# Altium integrated library WE-PD (rev22a).IntLib: 359 symbols (part 5 of 6)
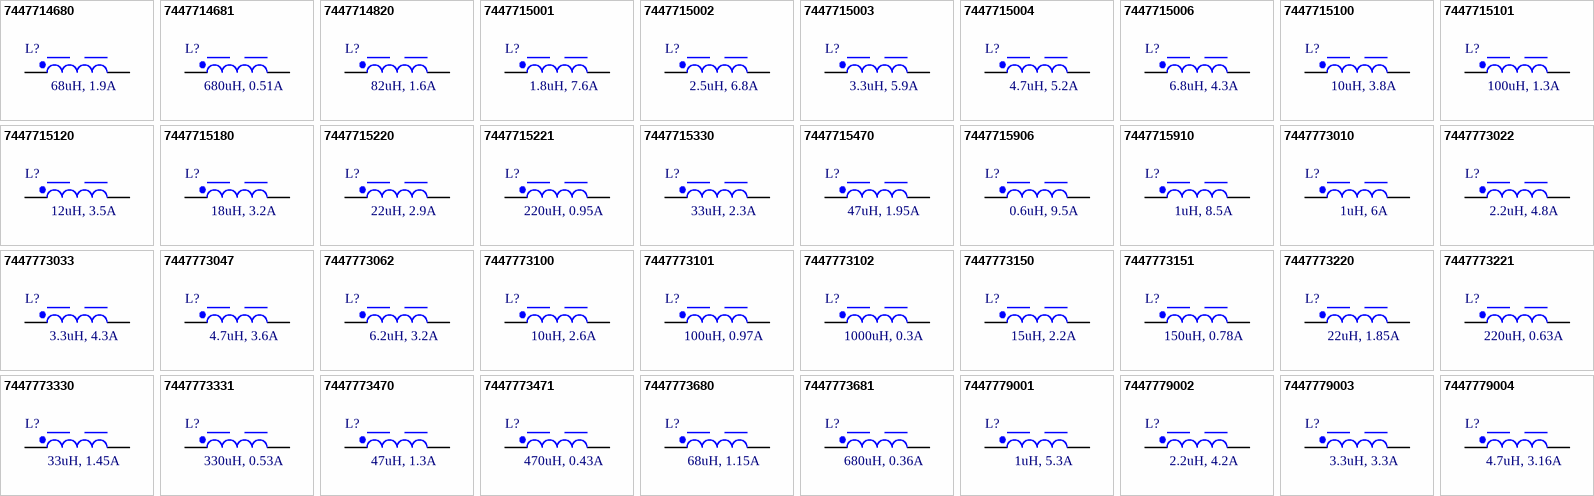
[diagram p12: symbols 7447714680 to 7447779004]

## 7447773470
designator L?, comment 47uH, 1.3A
WE-PD SMT Power Inductor, size 7345P, 47uH, 1.3A, 182mOhm; Manufacturer: Wurth Elektronik; Manufacturer Part Number: 7447773470; Self Resonant Frequency: 10.3MHz; DC Resistance typ.: 150mOhm; Saturation Current: 1.7A; Type: Performance; ComponentLink1Description: Manufacturer; ComponentLink1URL: http://www.we-online.de; ComponentLink2Description: Datasheet; ComponentLink2URL: https://www.we-online.com/catalog/datasheet/7447773470.pdf; Mounting Technology: SMT; Operating Temperature: -40 to +150degC; Packaging: Tape and Reel; DC Resistance max.: 182mOhm; Inductance: 47uH; Rated Current: 1.3A; Size: 7345P; Height: 4.5mm; Length: 7.3mm; Width: 7.4mm
footprint WE-PD_7345P
pins: 1, 2

## 7447773471
designator L?, comment 470uH, 0.43A
WE-PD SMT Power Inductor, size 7345P, 470uH, 0.43A, 1700mOhm; Manufacturer: Wurth Elektronik; Manufacturer Part Number: 7447773471; Self Resonant Frequency: 2.8MHz; DC Resistance typ.: 1360mOhm; Saturation Current: 0.55A; Type: Performance; ComponentLink1Description: Manufacturer; ComponentLink1URL: http://www.we-online.de; ComponentLink2Description: Datasheet; ComponentLink2URL: https://www.we-online.com/catalog/datasheet/7447773471.pdf; Mounting Technology: SMT; Operating Temperature: -40 to +150degC; Packaging: Tape and Reel; DC Resistance max.: 1700mOhm; Inductance: 470uH; Rated Current: 0.43A; Size: 7345P; Height: 4.5mm; Length: 7.3mm; Width: 7.4mm
footprint WE-PD_7345P
pins: 1, 2

## 7447773680
designator L?, comment 68uH, 1.15A
WE-PD SMT Power Inductor, size 7345P, 68uH, 1.15A, 230mOhm; Manufacturer: Wurth Elektronik; Manufacturer Part Number: 7447773680; Self Resonant Frequency: 8.4MHz; DC Resistance typ.: 190mOhm; Saturation Current: 1.45A; Type: Performance; ComponentLink1Description: Manufacturer; ComponentLink1URL: http://www.we-online.de; ComponentLink2Description: Datasheet; ComponentLink2URL: https://www.we-online.com/catalog/datasheet/7447773680.pdf; Mounting Technology: SMT; Operating Temperature: -40 to +150degC; Packaging: Tape and Reel; DC Resistance max.: 230mOhm; Inductance: 68uH; Rated Current: 1.15A; Size: 7345P; Height: 4.5mm; Length: 7.3mm; Width: 7.4mm
footprint WE-PD_7345P
pins: 1, 2

## 7447773681
designator L?, comment 680uH, 0.36A
WE-PD SMT Power Inductor, size 7345P, 680uH, 0.36A, 2300mOhm; Manufacturer: Wurth Elektronik; Manufacturer Part Number: 7447773681; Self Resonant Frequency: 2.3MHz; DC Resistance typ.: 1950mOhm; Saturation Current: 0.46A; Type: Performance; ComponentLink1Description: Manufacturer; ComponentLink1URL: http://www.we-online.de; ComponentLink2Description: Datasheet; ComponentLink2URL: https://www.we-online.com/catalog/datasheet/7447773681.pdf; Mounting Technology: SMT; Operating Temperature: -40 to +150degC; Packaging: Tape and Reel; DC Resistance max.: 2300mOhm; Inductance: 680uH; Rated Current: 0.36A; Size: 7345P; Height: 4.5mm; Length: 7.3mm; Width: 7.4mm
footprint WE-PD_7345P
pins: 1, 2

## 7447779001
designator L?, comment 1uH, 5.3A
WE-PD SMT Power Inductor, size 7345R, 1uH, 5.3A, 15mOhm; Manufacturer: Wurth Elektronik; Manufacturer Part Number: 7447779001; Self Resonant Frequency: 100MHz; DC Resistance typ.: 10mOhm; Saturation Current: 9.5A; Type: Robust; ComponentLink1Description: Manufacturer; ComponentLink1URL: http://www.we-online.de; ComponentLink2Description: Datasheet; ComponentLink2URL: https://www.we-online.com/catalog/datasheet/7447779001.pdf; Mounting Technology: SMT; Operating Temperature: -40 to +125degC; Packaging: Tape and Reel; DC Resistance max.: 15mOhm; Inductance: 1uH; Rated Current: 5.3A; Size: 7345R; Height: 4.5mm; Length: 7.3mm; Width: 7.3mm
footprint WE-PD_7345R
pins: 1, 2

## 7447779002
designator L?, comment 2.2uH, 4.2A
WE-PD SMT Power Inductor, size 7345R, 2.2uH, 4.2A, 20mOhm; Manufacturer: Wurth Elektronik; Manufacturer Part Number: 7447779002; Self Resonant Frequency: 60MHz; DC Resistance typ.: 16mOhm; Saturation Current: 6A; Type: Robust; ComponentLink1Description: Manufacturer; ComponentLink1URL: http://www.we-online.de; ComponentLink2Description: Datasheet; ComponentLink2URL: https://www.we-online.com/catalog/datasheet/7447779002.pdf; Mounting Technology: SMT; Operating Temperature: -40 to +125degC; Packaging: Tape and Reel; DC Resistance max.: 20mOhm; Inductance: 2.2uH; Rated Current: 4.2A; Size: 7345R; Height: 4.5mm; Length: 7.3mm; Width: 7.3mm
footprint WE-PD_7345R
pins: 1, 2

## 7447779003
designator L?, comment 3.3uH, 3.3A
WE-PD SMT Power Inductor, size 7345R, 3.3uH, 3.3A, 30mOhm; Manufacturer: Wurth Elektronik; Manufacturer Part Number: 7447779003; Self Resonant Frequency: 55MHz; DC Resistance typ.: 26mOhm; Saturation Current: 4.5A; Type: Robust; ComponentLink1Description: Manufacturer; ComponentLink1URL: http://www.we-online.de; ComponentLink2Description: Datasheet; ComponentLink2URL: https://www.we-online.com/catalog/datasheet/7447779003.pdf; Mounting Technology: SMT; Operating Temperature: -40 to +125degC; Packaging: Tape and Reel; DC Resistance max.: 30mOhm; Inductance: 3.3uH; Rated Current: 3.3A; Size: 7345R; Height: 4.5mm; Length: 7.3mm; Width: 7.3mm
footprint WE-PD_7345R
pins: 1, 2

## 7447779004
designator L?, comment 4.7uH, 3.16A
WE-PD SMT Power Inductor, size 7345R, 4.7uH, 3.16A, 32mOhm; Manufacturer: Wurth Elektronik; Manufacturer Part Number: 7447779004; Self Resonant Frequency: 37MHz; DC Resistance typ.: 28mOhm; Saturation Current: 4.4A; Type: Robust; ComponentLink1Description: Manufacturer; ComponentLink1URL: http://www.we-online.de; ComponentLink2Description: Datasheet; ComponentLink2URL: https://www.we-online.com/catalog/datasheet/7447779004.pdf; Mounting Technology: SMT; Operating Temperature: -40 to +125degC; Packaging: Tape and Reel; DC Resistance max.: 32mOhm; Inductance: 4.7uH; Rated Current: 3.16A; Size: 7345R; Height: 4.5mm; Length: 7.3mm; Width: 7.3mm
footprint WE-PD_7345R
pins: 1, 2

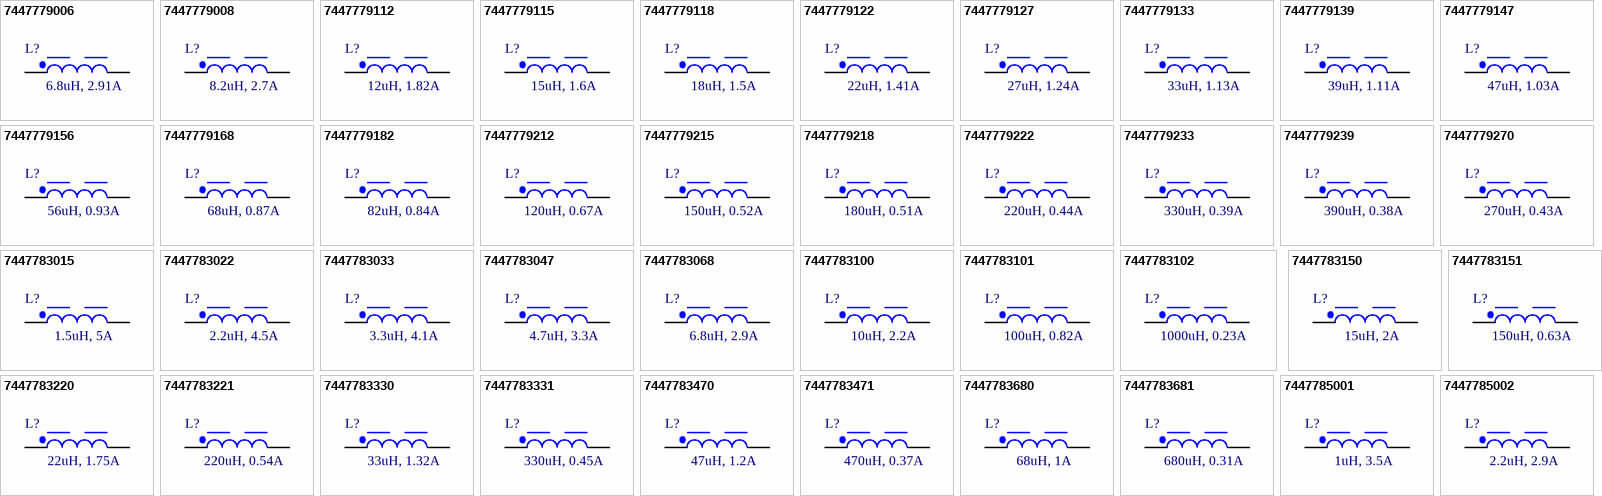
[diagram p7: symbols 7447779006 to 7447785002]

## 7447779006
designator L?, comment 6.8uH, 2.91A
WE-PD SMT Power Inductor, size 7345R, 6.8uH, 2.91A, 35mOhm; Manufacturer: Wurth Elektronik; Manufacturer Part Number: 7447779006; Self Resonant Frequency: 32MHz; DC Resistance typ.: 33mOhm; Saturation Current: 3.3A; Type: Robust; ComponentLink1Description: Manufacturer; ComponentLink1URL: http://www.we-online.de; ComponentLink2Description: Datasheet; ComponentLink2URL: https://www.we-online.com/catalog/datasheet/7447779006.pdf; Mounting Technology: SMT; Operating Temperature: -40 to +125degC; Packaging: Tape and Reel; DC Resistance max.: 35mOhm; Inductance: 6.8uH; Rated Current: 2.91A; Size: 7345R; Height: 4.5mm; Length: 7.3mm; Width: 7.3mm
footprint WE-PD_7345R
pins: 1, 2

## 7447779008
designator L?, comment 8.2uH, 2.7A
WE-PD SMT Power Inductor, size 7345R, 8.2uH, 2.7A, 53mOhm; Manufacturer: Wurth Elektronik; Manufacturer Part Number: 7447779008; Self Resonant Frequency: 28MHz; DC Resistance typ.: 47mOhm; Saturation Current: 3A; Type: Robust; ComponentLink1Description: Manufacturer; ComponentLink1URL: http://www.we-online.de; ComponentLink2Description: Datasheet; ComponentLink2URL: https://www.we-online.com/catalog/datasheet/7447779008.pdf; Mounting Technology: SMT; Operating Temperature: -40 to +125degC; Packaging: Tape and Reel; DC Resistance max.: 53mOhm; Inductance: 8.2uH; Rated Current: 2.7A; Size: 7345R; Height: 4.5mm; Length: 7.3mm; Width: 7.3mm
footprint WE-PD_7345R
pins: 1, 2

## 7447779112
designator L?, comment 12uH, 1.82A
WE-PD SMT Power Inductor, size 7345R, 12uH, 1.82A, 58mOhm; Manufacturer: Wurth Elektronik; Manufacturer Part Number: 7447779112; Self Resonant Frequency: 23MHz; DC Resistance typ.: 50mOhm; Saturation Current: 2.4A; Type: Robust; ComponentLink1Description: Manufacturer; ComponentLink1URL: http://www.we-online.de; ComponentLink2Description: Datasheet; ComponentLink2URL: https://www.we-online.com/catalog/datasheet/7447779112.pdf; Mounting Technology: SMT; Operating Temperature: -40 to +125degC; Packaging: Tape and Reel; DC Resistance max.: 58mOhm; Inductance: 12uH; Rated Current: 1.82A; Size: 7345R; Height: 4.5mm; Length: 7.3mm; Width: 7.3mm
footprint WE-PD_7345R
pins: 1, 2

## 7447779115
designator L?, comment 15uH, 1.6A
WE-PD SMT Power Inductor, size 7345R, 15uH, 1.6A, 81mOhm; Manufacturer: Wurth Elektronik; Manufacturer Part Number: 7447779115; Self Resonant Frequency: 19.5MHz; DC Resistance typ.: 70mOhm; Saturation Current: 2.2A; Type: Robust; ComponentLink1Description: Manufacturer; ComponentLink1URL: http://www.we-online.de; ComponentLink2Description: Datasheet; ComponentLink2URL: https://www.we-online.com/catalog/datasheet/7447779115.pdf; Mounting Technology: SMT; Operating Temperature: -40 to +125degC; Packaging: Tape and Reel; DC Resistance max.: 81mOhm; Inductance: 15uH; Rated Current: 1.6A; Size: 7345R; Height: 4.5mm; Length: 7.3mm; Width: 7.3mm
footprint WE-PD_7345R
pins: 1, 2

## 7447779118
designator L?, comment 18uH, 1.5A
WE-PD SMT Power Inductor, size 7345R, 18uH, 1.5A, 91mOhm; Manufacturer: Wurth Elektronik; Manufacturer Part Number: 7447779118; Self Resonant Frequency: 19MHz; DC Resistance typ.: 80mOhm; Saturation Current: 2.05A; Type: Robust; ComponentLink1Description: Manufacturer; ComponentLink1URL: http://www.we-online.de; ComponentLink2Description: Datasheet; ComponentLink2URL: https://www.we-online.com/catalog/datasheet/7447779118.pdf; Mounting Technology: SMT; Operating Temperature: -40 to +125degC; Packaging: Tape and Reel; DC Resistance max.: 91mOhm; Inductance: 18uH; Rated Current: 1.5A; Size: 7345R; Height: 4.5mm; Length: 7.3mm; Width: 7.3mm
footprint WE-PD_7345R
pins: 1, 2

## 7447779122
designator L?, comment 22uH, 1.41A
WE-PD SMT Power Inductor, size 7345R, 22uH, 1.41A, 110mOhm; Manufacturer: Wurth Elektronik; Manufacturer Part Number: 7447779122; Self Resonant Frequency: 17MHz; DC Resistance typ.: 90mOhm; Saturation Current: 1.7A; Type: Robust; ComponentLink1Description: Manufacturer; ComponentLink1URL: http://www.we-online.de; ComponentLink2Description: Datasheet; ComponentLink2URL: https://www.we-online.com/catalog/datasheet/7447779122.pdf; Mounting Technology: SMT; Operating Temperature: -40 to +125degC; Packaging: Tape and Reel; DC Resistance max.: 110mOhm; Inductance: 22uH; Rated Current: 1.41A; Size: 7345R; Height: 4.5mm; Length: 7.3mm; Width: 7.3mm
footprint WE-PD_7345R
pins: 1, 2

## 7447779127
designator L?, comment 27uH, 1.24A
WE-PD SMT Power Inductor, size 7345R, 27uH, 1.24A, 150mOhm; Manufacturer: Wurth Elektronik; Manufacturer Part Number: 7447779127; Self Resonant Frequency: 15MHz; DC Resistance typ.: 120mOhm; Saturation Current: 1.55A; Type: Robust; ComponentLink1Description: Manufacturer; ComponentLink1URL: http://www.we-online.de; ComponentLink2Description: Datasheet; ComponentLink2URL: https://www.we-online.com/catalog/datasheet/7447779127.pdf; Mounting Technology: SMT; Operating Temperature: -40 to +125degC; Packaging: Tape and Reel; DC Resistance max.: 150mOhm; Inductance: 27uH; Rated Current: 1.24A; Size: 7345R; Height: 4.5mm; Length: 7.3mm; Width: 7.3mm
footprint WE-PD_7345R
pins: 1, 2

## 7447779133
designator L?, comment 33uH, 1.13A
WE-PD SMT Power Inductor, size 7345R, 33uH, 1.13A, 170mOhm; Manufacturer: Wurth Elektronik; Manufacturer Part Number: 7447779133; Self Resonant Frequency: 13MHz; DC Resistance typ.: 140mOhm; Saturation Current: 1.4A; Type: Robust; ComponentLink1Description: Manufacturer; ComponentLink1URL: http://www.we-online.de; ComponentLink2Description: Datasheet; ComponentLink2URL: https://www.we-online.com/catalog/datasheet/7447779133.pdf; Mounting Technology: SMT; Operating Temperature: -40 to +125degC; Packaging: Tape and Reel; DC Resistance max.: 170mOhm; Inductance: 33uH; Rated Current: 1.13A; Size: 7345R; Height: 4.5mm; Length: 7.3mm; Width: 7.3mm
footprint WE-PD_7345R
pins: 1, 2

## 7447779139
designator L?, comment 39uH, 1.11A
WE-PD SMT Power Inductor, size 7345R, 39uH, 1.11A, 230mOhm; Manufacturer: Wurth Elektronik; Manufacturer Part Number: 7447779139; Self Resonant Frequency: 12MHz; DC Resistance typ.: 145mOhm; Saturation Current: 1.23A; Type: Robust; ComponentLink1Description: Manufacturer; ComponentLink1URL: http://www.we-online.de; ComponentLink2Description: Datasheet; ComponentLink2URL: https://www.we-online.com/catalog/datasheet/7447779139.pdf; Mounting Technology: SMT; Operating Temperature: -40 to +125degC; Packaging: Tape and Reel; DC Resistance max.: 230mOhm; Inductance: 39uH; Rated Current: 1.11A; Size: 7345R; Height: 4.5mm; Length: 7.3mm; Width: 7.3mm
footprint WE-PD_7345R
pins: 1, 2

## 7447779147
designator L?, comment 47uH, 1.03A
WE-PD SMT Power Inductor, size 7345R, 47uH, 1.03A, 260mOhm; Manufacturer: Wurth Elektronik; Manufacturer Part Number: 7447779147; Self Resonant Frequency: 10.5MHz; DC Resistance typ.: 190mOhm; Saturation Current: 1.1A; Type: Robust; ComponentLink1Description: Manufacturer; ComponentLink1URL: http://www.we-online.de; ComponentLink2Description: Datasheet; ComponentLink2URL: https://www.we-online.com/catalog/datasheet/7447779147.pdf; Mounting Technology: SMT; Operating Temperature: -40 to +125degC; Packaging: Tape and Reel; DC Resistance max.: 260mOhm; Inductance: 47uH; Rated Current: 1.03A; Size: 7345R; Height: 4.5mm; Length: 7.3mm; Width: 7.3mm
footprint WE-PD_7345R
pins: 1, 2

## 7447779156
designator L?, comment 56uH, 0.93A
WE-PD SMT Power Inductor, size 7345R, 56uH, 0.93A, 350mOhm; Manufacturer: Wurth Elektronik; Manufacturer Part Number: 7447779156; Self Resonant Frequency: 10MHz; DC Resistance typ.: 228mOhm; Saturation Current: 1.05A; Type: Robust; ComponentLink1Description: Manufacturer; ComponentLink1URL: http://www.we-online.de; ComponentLink2Description: Datasheet; ComponentLink2URL: https://www.we-online.com/catalog/datasheet/7447779156.pdf; Mounting Technology: SMT; Operating Temperature: -40 to +125degC; Packaging: Tape and Reel; DC Resistance max.: 350mOhm; Inductance: 56uH; Rated Current: 0.93A; Size: 7345R; Height: 4.5mm; Length: 7.3mm; Width: 7.3mm
footprint WE-PD_7345R
pins: 1, 2

## 7447779168
designator L?, comment 68uH, 0.87A
WE-PD SMT Power Inductor, size 7345R, 68uH, 0.87A, 380mOhm; Manufacturer: Wurth Elektronik; Manufacturer Part Number: 7447779168; Self Resonant Frequency: 9MHz; DC Resistance typ.: 239mOhm; Saturation Current: 0.95A; Type: Robust; ComponentLink1Description: Manufacturer; ComponentLink1URL: http://www.we-online.de; ComponentLink2Description: Datasheet; ComponentLink2URL: https://www.we-online.com/catalog/datasheet/7447779168.pdf; Mounting Technology: SMT; Operating Temperature: -40 to +125degC; Packaging: Tape and Reel; DC Resistance max.: 380mOhm; Inductance: 68uH; Rated Current: 0.87A; Size: 7345R; Height: 4.5mm; Length: 7.3mm; Width: 7.3mm
footprint WE-PD_7345R
pins: 1, 2

## 7447779182
designator L?, comment 82uH, 0.84A
WE-PD SMT Power Inductor, size 7345R, 82uH, 0.84A, 430mOhm; Manufacturer: Wurth Elektronik; Manufacturer Part Number: 7447779182; Self Resonant Frequency: 8MHz; DC Resistance typ.: 250mOhm; Saturation Current: 0.9A; Type: Robust; ComponentLink1Description: Manufacturer; ComponentLink1URL: http://www.we-online.de; ComponentLink2Description: Datasheet; ComponentLink2URL: https://www.we-online.com/catalog/datasheet/7447779182.pdf; Mounting Technology: SMT; Operating Temperature: -40 to +125degC; Packaging: Tape and Reel; DC Resistance max.: 430mOhm; Inductance: 82uH; Rated Current: 0.84A; Size: 7345R; Height: 4.5mm; Length: 7.3mm; Width: 7.3mm
footprint WE-PD_7345R
pins: 1, 2

## 7447779212
designator L?, comment 120uH, 0.67A
WE-PD SMT Power Inductor, size 7345R, 120uH, 0.67A, 660mOhm; Manufacturer: Wurth Elektronik; Manufacturer Part Number: 7447779212; Self Resonant Frequency: 6.7MHz; DC Resistance typ.: 396mOhm; Saturation Current: 0.7A; Type: Robust; ComponentLink1Description: Manufacturer; ComponentLink1URL: http://www.we-online.de; ComponentLink2Description: Datasheet; ComponentLink2URL: https://www.we-online.com/catalog/datasheet/7447779212.pdf; Mounting Technology: SMT; Operating Temperature: -40 to +125degC; Packaging: Tape and Reel; DC Resistance max.: 660mOhm; Inductance: 120uH; Rated Current: 0.67A; Size: 7345R; Height: 4.5mm; Length: 7.3mm; Width: 7.3mm
footprint WE-PD_7345R
pins: 1, 2

## 7447779215
designator L?, comment 150uH, 0.52A
WE-PD SMT Power Inductor, size 7345R, 150uH, 0.52A, 880mOhm; Manufacturer: Wurth Elektronik; Manufacturer Part Number: 7447779215; Self Resonant Frequency: 6MHz; DC Resistance typ.: 529mOhm; Saturation Current: 0.63A; Type: Robust; ComponentLink1Description: Manufacturer; ComponentLink1URL: http://www.we-online.de; ComponentLink2Description: Datasheet; ComponentLink2URL: https://www.we-online.com/catalog/datasheet/7447779215.pdf; Mounting Technology: SMT; Operating Temperature: -40 to +125degC; Packaging: Tape and Reel; DC Resistance max.: 880mOhm; Inductance: 150uH; Rated Current: 0.52A; Size: 7345R; Height: 4.5mm; Length: 7.3mm; Width: 7.3mm
footprint WE-PD_7345R
pins: 1, 2

## 7447779218
designator L?, comment 180uH, 0.51A
WE-PD SMT Power Inductor, size 7345R, 180uH, 0.51A, 980mOhm; Manufacturer: Wurth Elektronik; Manufacturer Part Number: 7447779218; Self Resonant Frequency: 5.3MHz; DC Resistance typ.: 603mOhm; Saturation Current: 0.56A; Type: Robust; ComponentLink1Description: Manufacturer; ComponentLink1URL: http://www.we-online.de; ComponentLink2Description: Datasheet; ComponentLink2URL: https://www.we-online.com/catalog/datasheet/7447779218.pdf; Mounting Technology: SMT; Operating Temperature: -40 to +125degC; Packaging: Tape and Reel; DC Resistance max.: 980mOhm; Inductance: 180uH; Rated Current: 0.51A; Size: 7345R; Height: 4.5mm; Length: 7.3mm; Width: 7.3mm
footprint WE-PD_7345R
pins: 1, 2

## 7447779222
designator L?, comment 220uH, 0.44A
WE-PD SMT Power Inductor, size 7345R, 220uH, 0.44A, 1170mOhm; Manufacturer: Wurth Elektronik; Manufacturer Part Number: 7447779222; Self Resonant Frequency: 5MHz; DC Resistance typ.: 920mOhm; Saturation Current: 0.54A; Type: Robust; ComponentLink1Description: Manufacturer; ComponentLink1URL: http://www.we-online.de; ComponentLink2Description: Datasheet; ComponentLink2URL: https://www.we-online.com/catalog/datasheet/7447779222.pdf; Mounting Technology: SMT; Operating Temperature: -40 to +125degC; Packaging: Tape and Reel; DC Resistance max.: 1170mOhm; Inductance: 220uH; Rated Current: 0.44A; Size: 7345R; Height: 4.5mm; Length: 7.3mm; Width: 7.3mm
footprint WE-PD_7345R
pins: 1, 2

## 7447779233
designator L?, comment 330uH, 0.39A
WE-PD SMT Power Inductor, size 7345R, 330uH, 0.39A, 1860mOhm; Manufacturer: Wurth Elektronik; Manufacturer Part Number: 7447779233; Self Resonant Frequency: 4MHz; DC Resistance typ.: 1150mOhm; Saturation Current: 0.45A; Type: Robust; ComponentLink1Description: Manufacturer; ComponentLink1URL: http://www.we-online.de; ComponentLink2Description: Datasheet; ComponentLink2URL: https://www.we-online.com/catalog/datasheet/7447779233.pdf; Mounting Technology: SMT; Operating Temperature: -40 to +125degC; Packaging: Tape and Reel; DC Resistance max.: 1860mOhm; Inductance: 330uH; Rated Current: 0.39A; Size: 7345R; Height: 4.5mm; Length: 7.3mm; Width: 7.3mm
footprint WE-PD_7345R
pins: 1, 2

## 7447779239
designator L?, comment 390uH, 0.38A
WE-PD SMT Power Inductor, size 7345R, 390uH, 0.38A, 2850mOhm; Manufacturer: Wurth Elektronik; Manufacturer Part Number: 7447779239; Self Resonant Frequency: 3.8MHz; DC Resistance typ.: 1400mOhm; Saturation Current: 0.42A; Type: Robust; ComponentLink1Description: Manufacturer; ComponentLink1URL: http://www.we-online.de; ComponentLink2Description: Datasheet; ComponentLink2URL: https://www.we-online.com/catalog/datasheet/7447779239.pdf; Mounting Technology: SMT; Operating Temperature: -40 to +125degC; Packaging: Tape and Reel; DC Resistance max.: 2850mOhm; Inductance: 390uH; Rated Current: 0.38A; Size: 7345R; Height: 4.5mm; Length: 7.3mm; Width: 7.3mm
footprint WE-PD_7345R
pins: 1, 2

## 7447779270
designator L?, comment 270uH, 0.43A
WE-PD SMT Power Inductor, size 7345R, 270uH, 0.43A, 1640mOhm; Manufacturer: Wurth Elektronik; Manufacturer Part Number: 7447779270; Self Resonant Frequency: 4.3MHz; DC Resistance typ.: 1090mOhm; Saturation Current: 0.48A; Type: Robust; ComponentLink1Description: Manufacturer; ComponentLink1URL: http://www.we-online.de; ComponentLink2Description: Datasheet; ComponentLink2URL: https://www.we-online.com/catalog/datasheet/7447779270.pdf; Mounting Technology: SMT; Operating Temperature: -40 to +125degC; Packaging: Tape and Reel; DC Resistance max.: 1640mOhm; Inductance: 270uH; Rated Current: 0.43A; Size: 7345R; Height: 4.5mm; Length: 7.3mm; Width: 7.3mm
footprint WE-PD_7345R
pins: 1, 2

## 7447783015
designator L?, comment 1.5uH, 5A
WE-PD SMT Power Inductor, size 7332P, 1.5uH, 5A, 15mOhm; Manufacturer: Wurth Elektronik; Manufacturer Part Number: 7447783015; Self Resonant Frequency: 73MHz; DC Resistance typ.: 12mOhm; Saturation Current: 7.8A; Type: Performance; ComponentLink1Description: Manufacturer; ComponentLink1URL: http://www.we-online.de; ComponentLink2Description: Datasheet; ComponentLink2URL: https://www.we-online.com/catalog/datasheet/7447783015.pdf; Mounting Technology: SMT; Operating Temperature: -40 to +150degC; Packaging: Tape and Reel; DC Resistance max.: 15mOhm; Inductance: 1.5uH; Rated Current: 5A; Size: 7332P; Height: 3.5mm; Length: 7.3mm; Width: 7.4mm
footprint WE-PD_7332P
pins: 1, 2

## 7447783022
designator L?, comment 2.2uH, 4.5A
WE-PD SMT Power Inductor, size 7332P, 2.2uH, 4.5A, 19mOhm; Manufacturer: Wurth Elektronik; Manufacturer Part Number: 7447783022; Self Resonant Frequency: 62MHz; DC Resistance typ.: 15.5mOhm; Saturation Current: 6.5A; Type: Performance; ComponentLink1Description: Manufacturer; ComponentLink1URL: http://www.we-online.de; ComponentLink2Description: Datasheet; ComponentLink2URL: https://www.we-online.com/catalog/datasheet/7447783022.pdf; Mounting Technology: SMT; Operating Temperature: -40 to +150degC; Packaging: Tape and Reel; DC Resistance max.: 19mOhm; Inductance: 2.2uH; Rated Current: 4.5A; Size: 7332P; Height: 3.5mm; Length: 7.3mm; Width: 7.4mm
footprint WE-PD_7332P
pins: 1, 2

## 7447783033
designator L?, comment 3.3uH, 4.1A
WE-PD SMT Power Inductor, size 7332P, 3.3uH, 4.1A, 24mOhm; Manufacturer: Wurth Elektronik; Manufacturer Part Number: 7447783033; Self Resonant Frequency: 51MHz; DC Resistance typ.: 18mOhm; Saturation Current: 5.3A; Type: Performance; ComponentLink1Description: Manufacturer; ComponentLink1URL: http://www.we-online.de; ComponentLink2Description: Datasheet; ComponentLink2URL: https://www.we-online.com/catalog/datasheet/7447783033.pdf; Mounting Technology: SMT; Operating Temperature: -40 to +150degC; Packaging: Tape and Reel; DC Resistance max.: 24mOhm; Inductance: 3.3uH; Rated Current: 4.1A; Size: 7332P; Height: 3.5mm; Length: 7.3mm; Width: 7.4mm
footprint WE-PD_7332P
pins: 1, 2

## 7447783047
designator L?, comment 4.7uH, 3.3A
WE-PD SMT Power Inductor, size 7332P, 4.7uH, 3.3A, 35mOhm; Manufacturer: Wurth Elektronik; Manufacturer Part Number: 7447783047; Self Resonant Frequency: 38MHz; DC Resistance typ.: 27mOhm; Saturation Current: 4.6A; Type: Performance; ComponentLink1Description: Manufacturer; ComponentLink1URL: http://www.we-online.de; ComponentLink2Description: Datasheet; ComponentLink2URL: https://www.we-online.com/catalog/datasheet/7447783047.pdf; Mounting Technology: SMT; Operating Temperature: -40 to +150degC; Packaging: Tape and Reel; DC Resistance max.: 35mOhm; Inductance: 4.7uH; Rated Current: 3.3A; Size: 7332P; Height: 3.5mm; Length: 7.3mm; Width: 7.4mm
footprint WE-PD_7332P
pins: 1, 2

## 7447783068
designator L?, comment 6.8uH, 2.9A
WE-PD SMT Power Inductor, size 7332P, 6.8uH, 2.9A, 41mOhm; Manufacturer: Wurth Elektronik; Manufacturer Part Number: 7447783068; Self Resonant Frequency: 35MHz; DC Resistance typ.: 33mOhm; Saturation Current: 3.8A; Type: Performance; ComponentLink1Description: Manufacturer; ComponentLink1URL: http://www.we-online.de; ComponentLink2Description: Datasheet; ComponentLink2URL: https://www.we-online.com/catalog/datasheet/7447783068.pdf; Mounting Technology: SMT; Operating Temperature: -40 to +150degC; Packaging: Tape and Reel; DC Resistance max.: 41mOhm; Inductance: 6.8uH; Rated Current: 2.9A; Size: 7332P; Height: 3.5mm; Length: 7.3mm; Width: 7.4mm
footprint WE-PD_7332P
pins: 1, 2

## 7447783100
designator L?, comment 10uH, 2.2A
WE-PD SMT Power Inductor, size 7332P, 10uH, 2.2A, 68mOhm; Manufacturer: Wurth Elektronik; Manufacturer Part Number: 7447783100; Self Resonant Frequency: 30MHz; DC Resistance typ.: 56mOhm; Saturation Current: 3.1A; Type: Performance; ComponentLink1Description: Manufacturer; ComponentLink1URL: http://www.we-online.de; ComponentLink2Description: Datasheet; ComponentLink2URL: https://www.we-online.com/catalog/datasheet/7447783100.pdf; Mounting Technology: SMT; Operating Temperature: -40 to +150degC; Packaging: Tape and Reel; DC Resistance max.: 68mOhm; Inductance: 10uH; Rated Current: 2.2A; Size: 7332P; Height: 3.5mm; Length: 7.3mm; Width: 7.4mm
footprint WE-PD_7332P
pins: 1, 2

## 7447783101
designator L?, comment 100uH, 0.82A
WE-PD SMT Power Inductor, size 7332P, 100uH, 0.82A, 450mOhm; Manufacturer: Wurth Elektronik; Manufacturer Part Number: 7447783101; Self Resonant Frequency: 7.8MHz; DC Resistance typ.: 390mOhm; Saturation Current: 1A; Type: Performance; ComponentLink1Description: Manufacturer; ComponentLink1URL: http://www.we-online.de; ComponentLink2Description: Datasheet; ComponentLink2URL: https://www.we-online.com/catalog/datasheet/7447783101.pdf; Mounting Technology: SMT; Operating Temperature: -40 to +150degC; Packaging: Tape and Reel; DC Resistance max.: 450mOhm; Inductance: 100uH; Rated Current: 0.82A; Size: 7332P; Height: 3.5mm; Length: 7.3mm; Width: 7.4mm
footprint WE-PD_7332P
pins: 1, 2

## 7447783102
designator L?, comment 1000uH, 0.23A
WE-PD SMT Power Inductor, size 7332P, 1000uH, 0.23A, 4600mOhm; Manufacturer: Wurth Elektronik; Manufacturer Part Number: 7447783102; Self Resonant Frequency: 2.2MHz; DC Resistance typ.: 4000mOhm; Saturation Current: 0.32A; Type: Performance; ComponentLink1Description: Manufacturer; ComponentLink1URL: http://www.we-online.de; ComponentLink2Description: Datasheet; ComponentLink2URL: https://www.we-online.com/catalog/datasheet/7447783102.pdf; Mounting Technology: SMT; Operating Temperature: -40 to +150degC; Packaging: Tape and Reel; DC Resistance max.: 4600mOhm; Inductance: 1000uH; Rated Current: 0.23A; Size: 7332P; Height: 3.5mm; Length: 7.3mm; Width: 7.4mm
footprint WE-PD_7332P
pins: 1, 2

## 7447783150
designator L?, comment 15uH, 2A
WE-PD SMT Power Inductor, size 7332P, 15uH, 2A, 85mOhm; Manufacturer: Wurth Elektronik; Manufacturer Part Number: 7447783150; Self Resonant Frequency: 23MHz; DC Resistance typ.: 68mOhm; Saturation Current: 2.5A; Type: Performance; ComponentLink1Description: Manufacturer; ComponentLink1URL: http://www.we-online.de; ComponentLink2Description: Datasheet; ComponentLink2URL: https://www.we-online.com/catalog/datasheet/7447783150.pdf; Mounting Technology: SMT; Operating Temperature: -40 to +150degC; Packaging: Tape and Reel; DC Resistance max.: 85mOhm; Inductance: 15uH; Rated Current: 2A; Size: 7332P; Height: 3.5mm; Length: 7.3mm; Width: 7.4mm
footprint WE-PD_7332P
pins: 1, 2

## 7447783151
designator L?, comment 150uH, 0.63A
WE-PD SMT Power Inductor, size 7332P, 150uH, 0.63A, 750mOhm; Manufacturer: Wurth Elektronik; Manufacturer Part Number: 7447783151; Self Resonant Frequency: 6.25MHz; DC Resistance typ.: 630mOhm; Saturation Current: 0.84A; Type: Performance; ComponentLink1Description: Manufacturer; ComponentLink1URL: http://www.we-online.de; ComponentLink2Description: Datasheet; ComponentLink2URL: https://www.we-online.com/catalog/datasheet/7447783151.pdf; Mounting Technology: SMT; Operating Temperature: -40 to +150degC; Packaging: Tape and Reel; DC Resistance max.: 750mOhm; Inductance: 150uH; Rated Current: 0.63A; Size: 7332P; Height: 3.5mm; Length: 7.3mm; Width: 7.4mm
footprint WE-PD_7332P
pins: 1, 2

## 7447783220
designator L?, comment 22uH, 1.75A
WE-PD SMT Power Inductor, size 7332P, 22uH, 1.75A, 115mOhm; Manufacturer: Wurth Elektronik; Manufacturer Part Number: 7447783220; Self Resonant Frequency: 18MHz; DC Resistance typ.: 90mOhm; Saturation Current: 2.15A; Type: Performance; ComponentLink1Description: Manufacturer; ComponentLink1URL: http://www.we-online.de; ComponentLink2Description: Datasheet; ComponentLink2URL: https://www.we-online.com/catalog/datasheet/7447783220.pdf; Mounting Technology: SMT; Operating Temperature: -40 to +150degC; Packaging: Tape and Reel; DC Resistance max.: 115mOhm; Inductance: 22uH; Rated Current: 1.75A; Size: 7332P; Height: 3.5mm; Length: 7.3mm; Width: 7.4mm
footprint WE-PD_7332P
pins: 1, 2

## 7447783221
designator L?, comment 220uH, 0.54A
WE-PD SMT Power Inductor, size 7332P, 220uH, 0.54A, 1040mOhm; Manufacturer: Wurth Elektronik; Manufacturer Part Number: 7447783221; Self Resonant Frequency: 5MHz; DC Resistance typ.: 870mOhm; Saturation Current: 0.69A; Type: Performance; ComponentLink1Description: Manufacturer; ComponentLink1URL: http://www.we-online.de; ComponentLink2Description: Datasheet; ComponentLink2URL: https://www.we-online.com/catalog/datasheet/7447783221.pdf; Mounting Technology: SMT; Operating Temperature: -40 to +150degC; Packaging: Tape and Reel; DC Resistance max.: 1040mOhm; Inductance: 220uH; Rated Current: 0.54A; Size: 7332P; Height: 3.5mm; Length: 7.3mm; Width: 7.4mm
footprint WE-PD_7332P
pins: 1, 2

## 7447783330
designator L?, comment 33uH, 1.32A
WE-PD SMT Power Inductor, size 7332P, 33uH, 1.32A, 165mOhm; Manufacturer: Wurth Elektronik; Manufacturer Part Number: 7447783330; Self Resonant Frequency: 14MHz; DC Resistance typ.: 138mOhm; Saturation Current: 1.75A; Type: Performance; ComponentLink1Description: Manufacturer; ComponentLink1URL: http://www.we-online.de; ComponentLink2Description: Datasheet; ComponentLink2URL: https://www.we-online.com/catalog/datasheet/7447783330.pdf; Mounting Technology: SMT; Operating Temperature: -40 to +150degC; Packaging: Tape and Reel; DC Resistance max.: 165mOhm; Inductance: 33uH; Rated Current: 1.32A; Size: 7332P; Height: 3.5mm; Length: 7.3mm; Width: 7.4mm
footprint WE-PD_7332P
pins: 1, 2

## 7447783331
designator L?, comment 330uH, 0.45A
WE-PD SMT Power Inductor, size 7332P, 330uH, 0.45A, 1430mOhm; Manufacturer: Wurth Elektronik; Manufacturer Part Number: 7447783331; Self Resonant Frequency: 4MHz; DC Resistance typ.: 1240mOhm; Saturation Current: 0.56A; Type: Performance; ComponentLink1Description: Manufacturer; ComponentLink1URL: http://www.we-online.de; ComponentLink2Description: Datasheet; ComponentLink2URL: https://www.we-online.com/catalog/datasheet/7447783331.pdf; Mounting Technology: SMT; Operating Temperature: -40 to +150degC; Packaging: Tape and Reel; DC Resistance max.: 1430mOhm; Inductance: 330uH; Rated Current: 0.45A; Size: 7332P; Height: 3.5mm; Length: 7.3mm; Width: 7.4mm
footprint WE-PD_7332P
pins: 1, 2

## 7447783470
designator L?, comment 47uH, 1.2A
WE-PD SMT Power Inductor, size 7332P, 47uH, 1.2A, 210mOhm; Manufacturer: Wurth Elektronik; Manufacturer Part Number: 7447783470; Self Resonant Frequency: 11.6MHz; DC Resistance typ.: 180mOhm; Saturation Current: 1.45A; Type: Performance; ComponentLink1Description: Manufacturer; ComponentLink1URL: http://www.we-online.de; ComponentLink2Description: Datasheet; ComponentLink2URL: https://www.we-online.com/catalog/datasheet/7447783470.pdf; Mounting Technology: SMT; Operating Temperature: -40 to +150degC; Packaging: Tape and Reel; DC Resistance max.: 210mOhm; Inductance: 47uH; Rated Current: 1.2A; Size: 7332P; Height: 3.5mm; Length: 7.3mm; Width: 7.4mm
footprint WE-PD_7332P
pins: 1, 2

## 7447783471
designator L?, comment 470uH, 0.37A
WE-PD SMT Power Inductor, size 7332P, 470uH, 0.37A, 2040mOhm; Manufacturer: Wurth Elektronik; Manufacturer Part Number: 7447783471; Self Resonant Frequency: 3.3MHz; DC Resistance typ.: 1780mOhm; Saturation Current: 0.47A; Type: Performance; ComponentLink1Description: Manufacturer; ComponentLink1URL: http://www.we-online.de; ComponentLink2Description: Datasheet; ComponentLink2URL: https://www.we-online.com/catalog/datasheet/7447783471.pdf; Mounting Technology: SMT; Operating Temperature: -40 to +150degC; Packaging: Tape and Reel; DC Resistance max.: 2040mOhm; Inductance: 470uH; Rated Current: 0.37A; Size: 7332P; Height: 3.5mm; Length: 7.3mm; Width: 7.4mm
footprint WE-PD_7332P
pins: 1, 2

## 7447783680
designator L?, comment 68uH, 1A
WE-PD SMT Power Inductor, size 7332P, 68uH, 1A, 300mOhm; Manufacturer: Wurth Elektronik; Manufacturer Part Number: 7447783680; Self Resonant Frequency: 9.3MHz; DC Resistance typ.: 260mOhm; Saturation Current: 1.25A; Type: Performance; ComponentLink1Description: Manufacturer; ComponentLink1URL: http://www.we-online.de; ComponentLink2Description: Datasheet; ComponentLink2URL: https://www.we-online.com/catalog/datasheet/7447783680.pdf; Mounting Technology: SMT; Operating Temperature: -40 to +150degC; Packaging: Tape and Reel; DC Resistance max.: 300mOhm; Inductance: 68uH; Rated Current: 1A; Size: 7332P; Height: 3.5mm; Length: 7.3mm; Width: 7.4mm
footprint WE-PD_7332P
pins: 1, 2

## 7447783681
designator L?, comment 680uH, 0.31A
WE-PD SMT Power Inductor, size 7332P, 680uH, 0.31A, 2900mOhm; Manufacturer: Wurth Elektronik; Manufacturer Part Number: 7447783681; Self Resonant Frequency: 2.75MHz; DC Resistance typ.: 2520mOhm; Saturation Current: 0.39A; Type: Performance; ComponentLink1Description: Manufacturer; ComponentLink1URL: http://www.we-online.de; ComponentLink2Description: Datasheet; ComponentLink2URL: https://www.we-online.com/catalog/datasheet/7447783681.pdf; Mounting Technology: SMT; Operating Temperature: -40 to +150degC; Packaging: Tape and Reel; DC Resistance max.: 2900mOhm; Inductance: 680uH; Rated Current: 0.31A; Size: 7332P; Height: 3.5mm; Length: 7.3mm; Width: 7.4mm
footprint WE-PD_7332P
pins: 1, 2

## 7447785001
designator L?, comment 1uH, 3.5A
WE-PD SMT Power Inductor, size 6033R, 1uH, 3.5A, 39mOhm; Manufacturer: Wurth Elektronik; Manufacturer Part Number: 7447785001; Self Resonant Frequency: 192MHz; DC Resistance typ.: 31mOhm; Saturation Current: 4.5A; Type: Robust; ComponentLink1Description: Manufacturer; ComponentLink1URL: http://www.we-online.de; ComponentLink2Description: Datasheet; ComponentLink2URL: https://www.we-online.com/catalog/datasheet/7447785001.pdf; Mounting Technology: SMT; Operating Temperature: -40 to +125degC; Packaging: Tape and Reel; DC Resistance max.: 39mOhm; Inductance: 1uH; Rated Current: 3.5A; Size: 6033R; Height: 3.3mm; Length: 5.9mm; Width: 6.2mm
footprint WE-PD_6033R
pins: 1, 2

## 7447785002
designator L?, comment 2.2uH, 2.9A
WE-PD SMT Power Inductor, size 6033R, 2.2uH, 2.9A, 54mOhm; Manufacturer: Wurth Elektronik; Manufacturer Part Number: 7447785002; Self Resonant Frequency: 88MHz; DC Resistance typ.: 43mOhm; Saturation Current: 3.3A; Type: Robust; ComponentLink1Description: Manufacturer; ComponentLink1URL: http://www.we-online.de; ComponentLink2Description: Datasheet; ComponentLink2URL: https://www.we-online.com/catalog/datasheet/7447785002.pdf; Mounting Technology: SMT; Operating Temperature: -40 to +125degC; Packaging: Tape and Reel; DC Resistance max.: 54mOhm; Inductance: 2.2uH; Rated Current: 2.9A; Size: 6033R; Height: 3.3mm; Length: 5.9mm; Width: 6.2mm
footprint WE-PD_6033R
pins: 1, 2

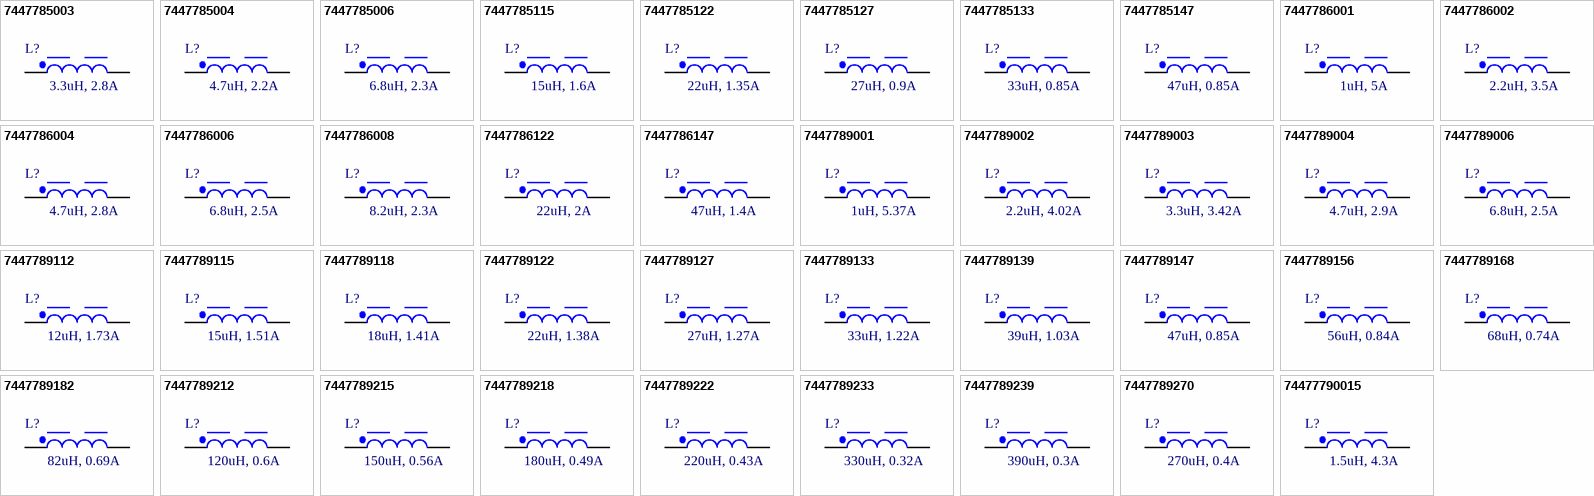
[diagram p8: symbols 7447785003 to 74477790015]

## 7447785003
designator L?, comment 3.3uH, 2.8A
WE-PD SMT Power Inductor, size 6033R, 3.3uH, 2.8A, 67mOhm; Manufacturer: Wurth Elektronik; Manufacturer Part Number: 7447785003; Self Resonant Frequency: 60MHz; DC Resistance typ.: 43mOhm; Saturation Current: 3A; Type: Robust; ComponentLink1Description: Manufacturer; ComponentLink1URL: http://www.we-online.de; ComponentLink2Description: Datasheet; ComponentLink2URL: https://www.we-online.com/catalog/datasheet/7447785003.pdf; Mounting Technology: SMT; Operating Temperature: -40 to +125degC; Packaging: Tape and Reel; DC Resistance max.: 67mOhm; Inductance: 3.3uH; Rated Current: 2.8A; Size: 6033R; Height: 3.3mm; Length: 5.9mm; Width: 6.2mm
footprint WE-PD_6033R
pins: 1, 2

## 7447785004
designator L?, comment 4.7uH, 2.2A
WE-PD SMT Power Inductor, size 6033R, 4.7uH, 2.2A, 78mOhm; Manufacturer: Wurth Elektronik; Manufacturer Part Number: 7447785004; Self Resonant Frequency: 53MHz; DC Resistance typ.: 60mOhm; Saturation Current: 2.5A; Type: Robust; ComponentLink1Description: Manufacturer; ComponentLink1URL: http://www.we-online.de; ComponentLink2Description: Datasheet; ComponentLink2URL: https://www.we-online.com/catalog/datasheet/7447785004.pdf; Mounting Technology: SMT; Operating Temperature: -40 to +125degC; Packaging: Tape and Reel; DC Resistance max.: 78mOhm; Inductance: 4.7uH; Rated Current: 2.2A; Size: 6033R; Height: 3.3mm; Length: 5.9mm; Width: 6.2mm
footprint WE-PD_6033R
pins: 1, 2

## 7447785006
designator L?, comment 6.8uH, 2.3A
WE-PD SMT Power Inductor, size 6033R, 6.8uH, 2.3A, 100mOhm; Manufacturer: Wurth Elektronik; Manufacturer Part Number: 7447785006; Self Resonant Frequency: 45MHz; DC Resistance typ.: 79mOhm; Saturation Current: 2A; Type: Robust; ComponentLink1Description: Manufacturer; ComponentLink1URL: http://www.we-online.de; ComponentLink2Description: Datasheet; ComponentLink2URL: https://www.we-online.com/catalog/datasheet/7447785006.pdf; Mounting Technology: SMT; Operating Temperature: -40 to +125degC; Packaging: Tape and Reel; DC Resistance max.: 100mOhm; Inductance: 6.8uH; Rated Current: 2.3A; Size: 6033R; Height: 3.3mm; Length: 5.9mm; Width: 6.2mm
footprint WE-PD_6033R
pins: 1, 2

## 7447785115
designator L?, comment 15uH, 1.6A
WE-PD SMT Power Inductor, size 6033R, 15uH, 1.6A, 200mOhm; Manufacturer: Wurth Elektronik; Manufacturer Part Number: 7447785115; Self Resonant Frequency: 28MHz; DC Resistance typ.: 165mOhm; Saturation Current: 1.4A; Type: Robust; ComponentLink1Description: Manufacturer; ComponentLink1URL: http://www.we-online.de; ComponentLink2Description: Datasheet; ComponentLink2URL: https://www.we-online.com/catalog/datasheet/7447785115.pdf; Mounting Technology: SMT; Operating Temperature: -40 to +125degC; Packaging: Tape and Reel; DC Resistance max.: 200mOhm; Inductance: 15uH; Rated Current: 1.6A; Size: 6033R; Height: 3.3mm; Length: 5.9mm; Width: 6.2mm
footprint WE-PD_6033R
pins: 1, 2

## 7447785122
designator L?, comment 22uH, 1.35A
WE-PD SMT Power Inductor, size 6033R, 22uH, 1.35A, 250mOhm; Manufacturer: Wurth Elektronik; Manufacturer Part Number: 7447785122; Self Resonant Frequency: 23MHz; DC Resistance typ.: 210mOhm; Saturation Current: 1.1A; Type: Robust; ComponentLink1Description: Manufacturer; ComponentLink1URL: http://www.we-online.de; ComponentLink2Description: Datasheet; ComponentLink2URL: https://www.we-online.com/catalog/datasheet/7447785122.pdf; Mounting Technology: SMT; Operating Temperature: -40 to +125degC; Packaging: Tape and Reel; DC Resistance max.: 250mOhm; Inductance: 22uH; Rated Current: 1.35A; Size: 6033R; Height: 3.3mm; Length: 5.9mm; Width: 6.2mm
footprint WE-PD_6033R
pins: 1, 2

## 7447785127
designator L?, comment 27uH, 0.9A
WE-PD SMT Power Inductor, size 6033R, 27uH, 0.9A, 360mOhm; Manufacturer: Wurth Elektronik; Manufacturer Part Number: 7447785127; Self Resonant Frequency: 18MHz; DC Resistance typ.: 300mOhm; Saturation Current: 1A; Type: Robust; ComponentLink1Description: Manufacturer; ComponentLink1URL: http://www.we-online.de; ComponentLink2Description: Datasheet; ComponentLink2URL: https://www.we-online.com/catalog/datasheet/7447785127.pdf; Mounting Technology: SMT; Operating Temperature: -40 to +125degC; Packaging: Tape and Reel; DC Resistance max.: 360mOhm; Inductance: 27uH; Rated Current: 0.9A; Size: 6033R; Height: 3.3mm; Length: 5.9mm; Width: 6.2mm
footprint WE-PD_6033R
pins: 1, 2

## 7447785133
designator L?, comment 33uH, 0.85A
WE-PD SMT Power Inductor, size 6033R, 33uH, 0.85A, 400mOhm; Manufacturer: Wurth Elektronik; Manufacturer Part Number: 7447785133; Self Resonant Frequency: 17MHz; DC Resistance typ.: 340mOhm; Saturation Current: 0.9A; Type: Robust; ComponentLink1Description: Manufacturer; ComponentLink1URL: http://www.we-online.de; ComponentLink2Description: Datasheet; ComponentLink2URL: https://www.we-online.com/catalog/datasheet/7447785133.pdf; Mounting Technology: SMT; Operating Temperature: -40 to +125degC; Packaging: Tape and Reel; DC Resistance max.: 400mOhm; Inductance: 33uH; Rated Current: 0.85A; Size: 6033R; Height: 3.3mm; Length: 5.9mm; Width: 6.2mm
footprint WE-PD_6033R
pins: 1, 2

## 7447785147
designator L?, comment 47uH, 0.85A
WE-PD SMT Power Inductor, size 6033R, 47uH, 0.85A, 600mOhm; Manufacturer: Wurth Elektronik; Manufacturer Part Number: 7447785147; Self Resonant Frequency: 16.5MHz; DC Resistance typ.: 500mOhm; Saturation Current: 0.74A; Type: Robust; ComponentLink1Description: Manufacturer; ComponentLink1URL: http://www.we-online.de; ComponentLink2Description: Datasheet; ComponentLink2URL: https://www.we-online.com/catalog/datasheet/7447785147.pdf; Mounting Technology: SMT; Operating Temperature: -40 to +125degC; Packaging: Tape and Reel; DC Resistance max.: 600mOhm; Inductance: 47uH; Rated Current: 0.85A; Size: 6033R; Height: 3.3mm; Length: 5.9mm; Width: 6.2mm
footprint WE-PD_6033R
pins: 1, 2

## 7447786001
designator L?, comment 1uH, 5A
WE-PD SMT Power Inductor, size 6050R, 1uH, 5A, 34mOhm; Manufacturer: Wurth Elektronik; Manufacturer Part Number: 7447786001; Self Resonant Frequency: 180MHz; DC Resistance typ.: 28mOhm; Saturation Current: 5.5A; Type: Robust; ComponentLink1Description: Manufacturer; ComponentLink1URL: http://www.we-online.de; ComponentLink2Description: Datasheet; ComponentLink2URL: https://www.we-online.com/catalog/datasheet/7447786001.pdf; Mounting Technology: SMT; Operating Temperature: -40 to +125degC; Packaging: Tape and Reel; DC Resistance max.: 34mOhm; Inductance: 1uH; Rated Current: 5A; Size: 6050R; Height: 5.1mm; Length: 5.9mm; Width: 6.2mm
footprint WE-PD_6050R
pins: 1, 2

## 7447786002
designator L?, comment 2.2uH, 3.5A
WE-PD SMT Power Inductor, size 6050R, 2.2uH, 3.5A, 49mOhm; Manufacturer: Wurth Elektronik; Manufacturer Part Number: 7447786002; Self Resonant Frequency: 115MHz; DC Resistance typ.: 40mOhm; Saturation Current: 4A; Type: Robust; ComponentLink1Description: Manufacturer; ComponentLink1URL: http://www.we-online.de; ComponentLink2Description: Datasheet; ComponentLink2URL: https://www.we-online.com/catalog/datasheet/7447786002.pdf; Mounting Technology: SMT; Operating Temperature: -40 to +125degC; Packaging: Tape and Reel; DC Resistance max.: 49mOhm; Inductance: 2.2uH; Rated Current: 3.5A; Size: 6050R; Height: 5.1mm; Length: 5.9mm; Width: 6.2mm
footprint WE-PD_6050R
pins: 1, 2

## 7447786004
designator L?, comment 4.7uH, 2.8A
WE-PD SMT Power Inductor, size 6050R, 4.7uH, 2.8A, 65mOhm; Manufacturer: Wurth Elektronik; Manufacturer Part Number: 7447786004; Self Resonant Frequency: 60MHz; DC Resistance typ.: 57mOhm; Type: Robust; ComponentLink1Description: Manufacturer; ComponentLink1URL: http://www.we-online.de; ComponentLink2Description: Datasheet; ComponentLink2URL: https://www.we-online.com/catalog/datasheet/7447786004.pdf; Mounting Technology: SMT; Operating Temperature: -40 to +125degC; Packaging: Tape and Reel; DC Resistance max.: 65mOhm; Inductance: 4.7uH; Saturation Current: 2.8A; Rated Current: 2.8A; Size: 6050R; Height: 5.1mm; Length: 5.9mm; Width: 6.2mm
footprint WE-PD_6050R
pins: 1, 2

## 7447786006
designator L?, comment 6.8uH, 2.5A
WE-PD SMT Power Inductor, size 6050R, 6.8uH, 2.5A, 75mOhm; Manufacturer: Wurth Elektronik; Manufacturer Part Number: 7447786006; Self Resonant Frequency: 43MHz; DC Resistance typ.: 62mOhm; Saturation Current: 2.3A; Type: Robust; ComponentLink1Description: Manufacturer; ComponentLink1URL: http://www.we-online.de; ComponentLink2Description: Datasheet; ComponentLink2URL: https://www.we-online.com/catalog/datasheet/7447786006.pdf; Mounting Technology: SMT; Operating Temperature: -40 to +125degC; Packaging: Tape and Reel; DC Resistance max.: 75mOhm; Inductance: 6.8uH; Rated Current: 2.5A; Size: 6050R; Height: 5.1mm; Length: 5.9mm; Width: 6.2mm
footprint WE-PD_6050R
pins: 1, 2

## 7447786008
designator L?, comment 8.2uH, 2.3A
WE-PD SMT Power Inductor, size 6050R, 8.2uH, 2.3A, 80mOhm; Manufacturer: Wurth Elektronik; Manufacturer Part Number: 7447786008; Self Resonant Frequency: 40MHz; DC Resistance typ.: 66mOhm; Saturation Current: 2.1A; Type: Robust; ComponentLink1Description: Manufacturer; ComponentLink1URL: http://www.we-online.de; ComponentLink2Description: Datasheet; ComponentLink2URL: https://www.we-online.com/catalog/datasheet/7447786008.pdf; Mounting Technology: SMT; Operating Temperature: -40 to +125degC; Packaging: Tape and Reel; DC Resistance max.: 80mOhm; Inductance: 8.2uH; Rated Current: 2.3A; Size: 6050R; Height: 5.1mm; Length: 5.9mm; Width: 6.2mm
footprint WE-PD_6050R
pins: 1, 2

## 7447786122
designator L?, comment 22uH, 2A
WE-PD SMT Power Inductor, size 6050R, 22uH, 2A, 115mOhm; Manufacturer: Wurth Elektronik; Manufacturer Part Number: 7447786122; Self Resonant Frequency: 15MHz; DC Resistance typ.: 98mOhm; Saturation Current: 1.3A; Type: Robust; ComponentLink1Description: Manufacturer; ComponentLink1URL: http://www.we-online.de; ComponentLink2Description: Datasheet; ComponentLink2URL: https://www.we-online.com/catalog/datasheet/7447786122.pdf; Mounting Technology: SMT; Operating Temperature: -40 to +125degC; Packaging: Tape and Reel; DC Resistance max.: 115mOhm; Inductance: 22uH; Rated Current: 2A; Size: 6050R; Height: 5.1mm; Length: 5.9mm; Width: 6.2mm
footprint WE-PD_6050R
pins: 1, 2

## 7447786147
designator L?, comment 47uH, 1.4A
WE-PD SMT Power Inductor, size 6050R, 47uH, 1.4A, 295mOhm; Manufacturer: Wurth Elektronik; Manufacturer Part Number: 7447786147; Self Resonant Frequency: 10MHz; DC Resistance typ.: 260mOhm; Saturation Current: 0.8A; Type: Robust; ComponentLink1Description: Manufacturer; ComponentLink1URL: http://www.we-online.de; ComponentLink2Description: Datasheet; ComponentLink2URL: https://www.we-online.com/catalog/datasheet/7447786147.pdf; Mounting Technology: SMT; Operating Temperature: -40 to +125degC; Packaging: Tape and Reel; DC Resistance max.: 295mOhm; Inductance: 47uH; Rated Current: 1.4A; Size: 6050R; Height: 5.1mm; Length: 5.9mm; Width: 6.2mm
footprint WE-PD_6050R
pins: 1, 2

## 7447789001
designator L?, comment 1uH, 5.37A
WE-PD SMT Power Inductor, size 7332R, 1uH, 5.37A, 12mOhm; Manufacturer: Wurth Elektronik; Manufacturer Part Number: 7447789001; Self Resonant Frequency: 115MHz; DC Resistance typ.: 10mOhm; Saturation Current: 6.4A; Type: Robust; ComponentLink1Description: Manufacturer; ComponentLink1URL: http://www.we-online.de; ComponentLink2Description: Datasheet; ComponentLink2URL: https://www.we-online.com/catalog/datasheet/7447789001.pdf; Mounting Technology: SMT; Operating Temperature: -40 to +125degC; Packaging: Tape and Reel; DC Resistance max.: 12mOhm; Inductance: 1uH; Rated Current: 5.37A; Size: 7332R; Height: 3.2mm; Length: 7.3mm; Width: 7.3mm
footprint WE-PD_7332R
pins: 1, 2

## 7447789002
designator L?, comment 2.2uH, 4.02A
WE-PD SMT Power Inductor, size 7332R, 2.2uH, 4.02A, 23mOhm; Manufacturer: Wurth Elektronik; Manufacturer Part Number: 7447789002; Self Resonant Frequency: 67MHz; DC Resistance typ.: 19mOhm; Saturation Current: 4.8A; Type: Robust; ComponentLink1Description: Manufacturer; ComponentLink1URL: http://www.we-online.de; ComponentLink2Description: Datasheet; ComponentLink2URL: https://www.we-online.com/catalog/datasheet/7447789002.pdf; Mounting Technology: SMT; Operating Temperature: -40 to +125degC; Packaging: Tape and Reel; DC Resistance max.: 23mOhm; Inductance: 2.2uH; Rated Current: 4.02A; Size: 7332R; Height: 3.2mm; Length: 7.3mm; Width: 7.3mm
footprint WE-PD_7332R
pins: 1, 2

## 7447789003
designator L?, comment 3.3uH, 3.42A
WE-PD SMT Power Inductor, size 7332R, 3.3uH, 3.42A, 30mOhm; Manufacturer: Wurth Elektronik; Manufacturer Part Number: 7447789003; Self Resonant Frequency: 61MHz; DC Resistance typ.: 24mOhm; Saturation Current: 4.2A; Type: Robust; ComponentLink1Description: Manufacturer; ComponentLink1URL: http://www.we-online.de; ComponentLink2Description: Datasheet; ComponentLink2URL: https://www.we-online.com/catalog/datasheet/7447789003.pdf; Mounting Technology: SMT; Operating Temperature: -40 to +125degC; Packaging: Tape and Reel; DC Resistance max.: 30mOhm; Inductance: 3.3uH; Rated Current: 3.42A; Size: 7332R; Height: 3.2mm; Length: 7.3mm; Width: 7.3mm
footprint WE-PD_7332R
pins: 1, 2

## 7447789004
designator L?, comment 4.7uH, 2.9A
WE-PD SMT Power Inductor, size 7332R, 4.7uH, 2.9A, 35mOhm; Manufacturer: Wurth Elektronik; Manufacturer Part Number: 7447789004; Self Resonant Frequency: 45MHz; DC Resistance typ.: 33mOhm; Saturation Current: 3.9A; Type: Robust; ComponentLink1Description: Manufacturer; ComponentLink1URL: http://www.we-online.de; ComponentLink2Description: Datasheet; ComponentLink2URL: https://www.we-online.com/catalog/datasheet/7447789004.pdf; Mounting Technology: SMT; Operating Temperature: -40 to +125degC; Packaging: Tape and Reel; DC Resistance max.: 35mOhm; Inductance: 4.7uH; Rated Current: 2.9A; Size: 7332R; Height: 3.2mm; Length: 7.3mm; Width: 7.3mm
footprint WE-PD_7332R
pins: 1, 2